# EAGLE library part DC_MC (library Roaster Control - Custom Parts)
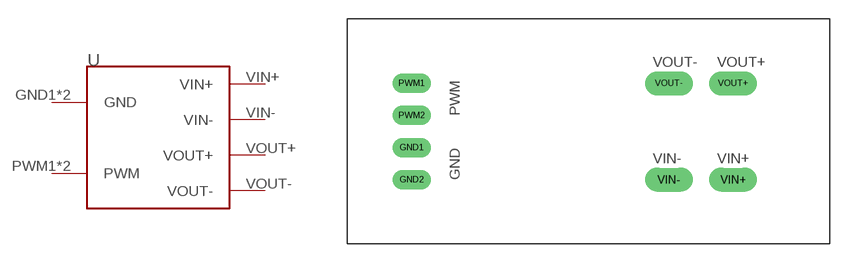
[diagram p0: symbol with the pads of DC_MC_FP; footprint DC_MC_FP]

Designator prefix -

## DC_MC  [DC_MC_FP]
GND1  GND
GND2  GND
PWM1  PWM
PWM2  PWM
VIN+  VIN+
VIN-  VIN-
VOUT+  VOUT+
VOUT-  VOUT-

## Footprint DC_MC_FP (pad centres in mm)
drill 1.016 long: GND1 -13.97,-1.27; GND2 -13.97,-3.81; PWM1 -13.97,3.81; PWM2 -13.97,1.27
drill 1.27 long: VIN+ 11.43,-3.81; VIN- 6.35,-3.81; VOUT+ 11.43,3.81; VOUT- 6.35,3.81